# Altium schematic symbol library Digital_IC.SchLib: 11 symbols
Pins are listed as number, name and electrical type; pins without a type are passive.

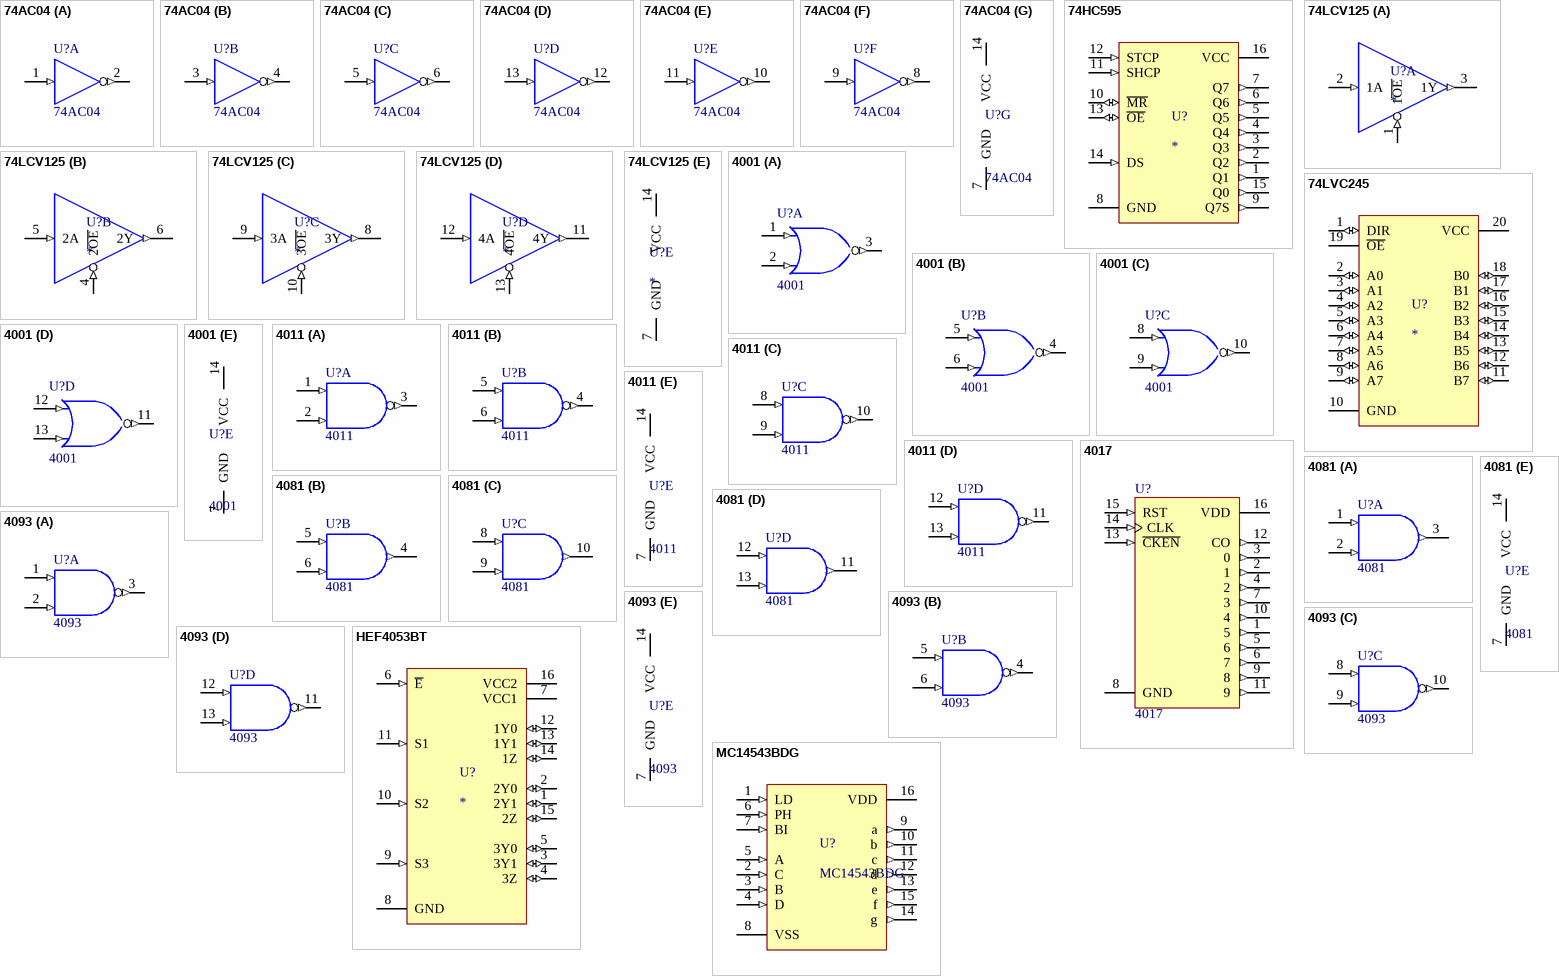
[diagram p0: symbols 74AC04 to MC14543BDG]

## 74AC04
designator U?
Hex Inverter, 14-Pin PDIP, Commercial Grade
footprint DIP-14
footprint SO-14
part A pins: 1 A (in), 2 ~{O} (out)
part B pins: 3 A (in), 4 ~{O} (out)
part C pins: 5 A (in), 6 ~{O} (out)
part D pins: 12 ~{O} (out), 13 A (in)
part E pins: 10 ~{O} (out), 11 A (in)
part F pins: 8 ~{O} (out), 9 A (in)
part G pins: 7 GND (power), 14 VCC (power)

## 74HC595
designator U?
footprint SO-16
footprint TSSOP-16
footprint DIP-16
pins: 1 Q1 (out), 2 Q2 (out), 3 Q3 (out), 4 Q4 (out), 5 Q5 (out), 6 Q6 (out), 7 Q7 (out), 8 GND (power), 9 Q7S (out), 10 ~{MR} (io), 11 SHCP (in), 12 STCP (in), 13 ~{OE} (io), 14 DS (in), 15 Q0 (out), 16 VCC (power)

## 74LCV125
designator U?
BUFFERS (3-STATE)
footprint SO-14
footprint TSSOP-14
part A pins: 1 1~{OE} (in), 2 1A (in), 3 1Y (out)
part B pins: 4 2~{OE} (in), 5 2A (in), 6 2Y (out)
part C pins: 8 3Y (out), 9 3A (in), 10 3~{OE} (in)
part D pins: 11 4Y (out), 12 4A (in), 13 4~{OE} (in)
part E pins: 7 GND (power), 14 VCC (power)

## 74LVC245
designator U?
footprint DIP-20
footprint SO-20
pins: 1 DIR (io) "aa", 2 A0 (io), 3 A1 (io), 4 A2 (io), 5 A3 (io), 6 A4 (io), 7 A5 (io), 8 A6 (io), 9 A7 (io), 10 GND (power), 11 B7 (io), 12 B6 (io), 13 B5 (io), 14 B4 (io), 15 B3 (io), 16 B2 (io), 17 B1 (io), 18 B0 (io), 19 ~{OE}, 20 VCC (power)

## 4001
designator U?
Quad 2-Input NOR
footprint DIP-14
footprint SO-14
part A pins: 1 A (in), 2 B (in), 3 J (out)
part B pins: 4 J (out), 5 A (in), 6 B (in)
part C pins: 8 A (in), 9 B (in), 10 J (out)
part D pins: 11 J (out), 12 A (in), 13 B (in)
part E pins: 7 GND (power), 14 VCC (power)

## 4011
designator U?
Quad 2-Input NAND
footprint DIP-14
footprint SO-14
part A pins: 1 A (in), 2 B (in), 3 J (out)
part B pins: 4 J (out), 5 A (in), 6 B (in)
part C pins: 8 A (in), 9 F (in), 10 J (out)
part D pins: 11 J (out), 12 A (in), 13 B (in)
part E pins: 7 GND (power), 14 VCC (power)

## 4017
designator U?
Decade Counter/Divider with 10 Decoded Outputs
footprint DIP-16
footprint SO-16
pins: 1 5 (out), 2 1 (out), 3 0 (out), 4 2 (out), 5 6 (out), 6 7 (out), 7 3 (out), 8 GND (power), 9 8 (out), 10 4 (out), 11 9 (out), 12 CO (out), 13 ~{CKEN} (in), 14 CLK (in), 15 RST (in), 16 VDD (power)

## 4081
designator U?
Quad 2-Input AND
footprint DIP-14
footprint SO-14
part A pins: 1 A (in), 2 B (in), 3 J (out)
part B pins: 4 J (out), 5 A (in), 6 B (in)
part C pins: 8 A (in), 9 B (in), 10 J (out)
part D pins: 11 J (out), 12 A (in), 13 B (in)
part E pins: 7 GND (power), 14 VCC (power)

## 4093
designator U?
Quad 2-Input Schmitt-Trigger NAND
footprint DIP-14
footprint SO-14
part A pins: 1 A (in), 2 B (in), 3 J (out)
part B pins: 4 K (out), 5 C (in), 6 D (in)
part C pins: 8 E (in), 9 F (in), 10 L (out)
part D pins: 11 M (out), 12 G (in), 13 H (in)
part E pins: 7 GND (power), 14 VCC (power)

## HEF4053BT
designator U?
footprint DIP-16
footprint TSSOP-16
footprint SO-16
pins: 1 2Y1 (io), 2 2Y0 (io), 3 3Y1 (io), 4 3Z (io), 5 3Y0 (io), 6 ~{E} (in), 7 VCC1 (power), 8 GND (power), 9 S3 (in), 10 S2 (in), 11 S1 (in), 12 1Y0 (io), 13 1Y1 (io), 14 1Z (io), 15 2Z (io), 16 VCC2 (power)

## MC14543BDG
designator U?
BCD na 7 segmentowy
footprint SO-16
pins: 1 LD (in), 2 C (in), 3 B (in), 4 D (in), 5 A (in), 6 PH (in), 7 BI (in), 8 VSS (power), 9 a (out), 10 b (out), 11 c (out), 12 d (out), 13 e (out), 14 g (out), 15 f (out), 16 VDD (power)